# Altium integrated library National Semiconductor MiscPower.IntLib: 1552 symbols (part 37 of 43)
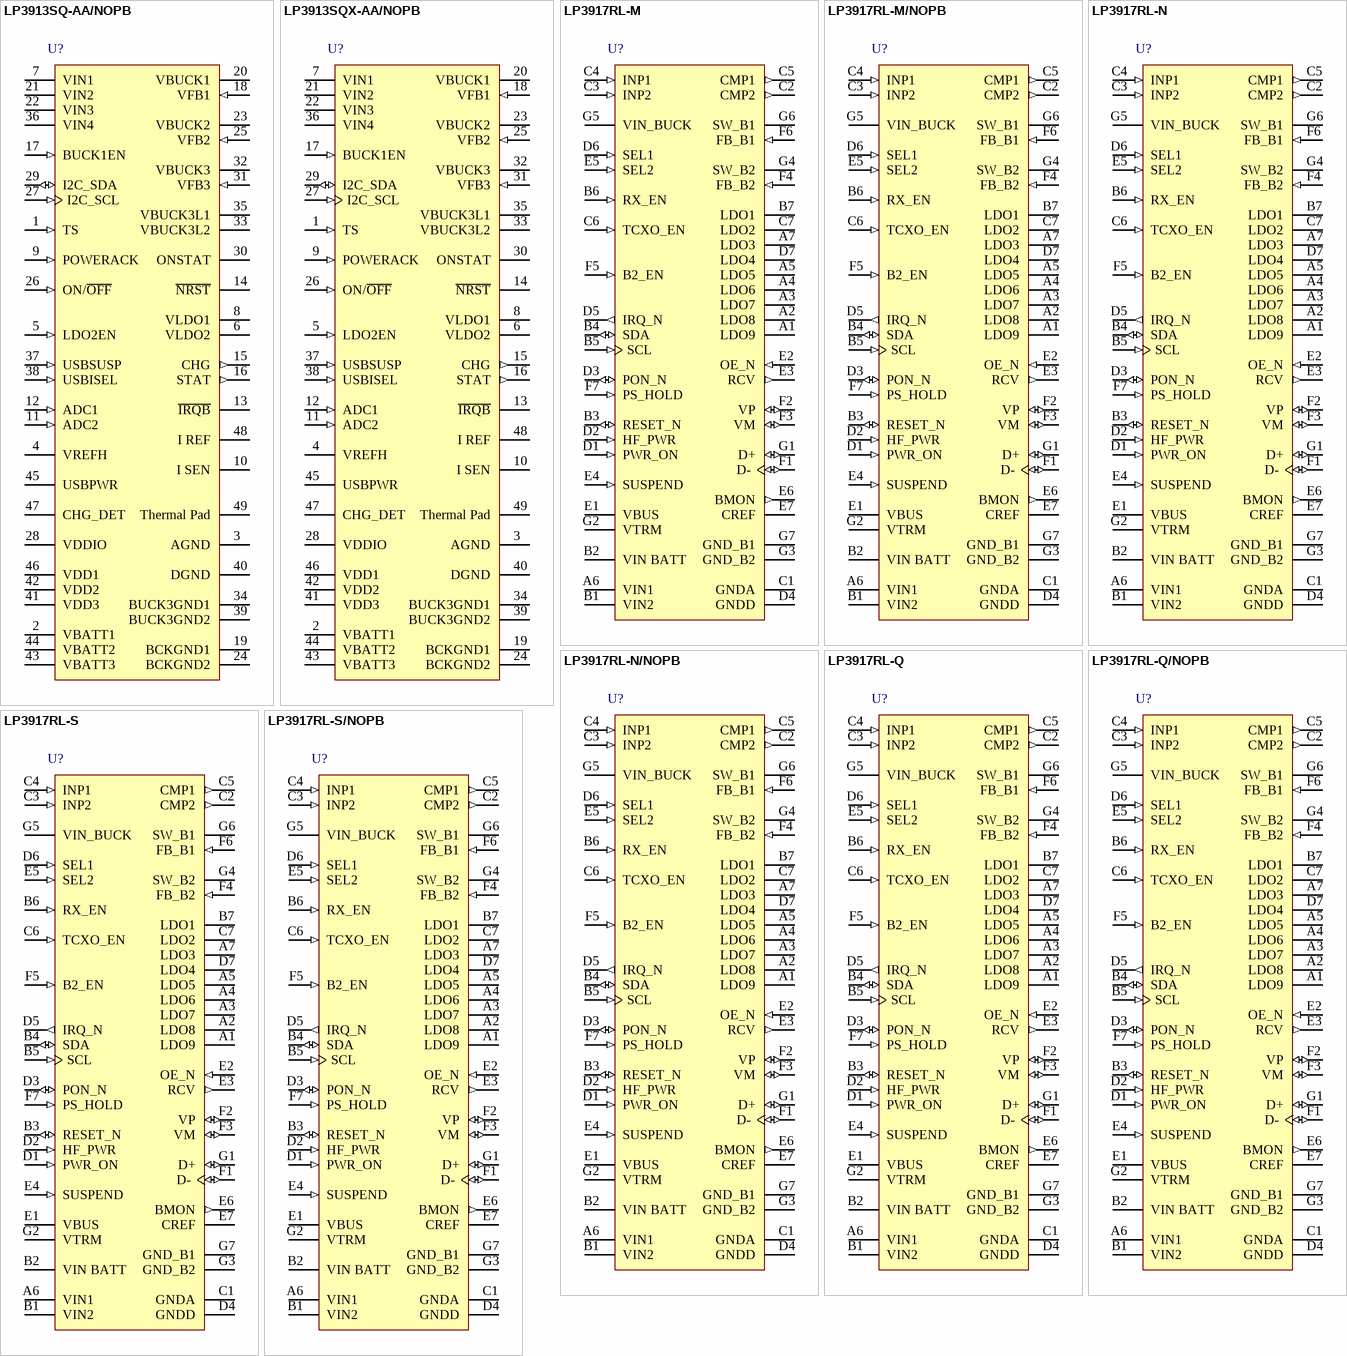
[diagram p93: symbols LP3913SQ-AA/NOPB to LP3917RL-S/NOPB]

## LP3917RL-M/NOPB
designator U?
CDMA Cellular Phone Power Management Unit, 49-pin Micro SMDXT, Pb-Free; PartNumber: LP3917RL-M/NOPB; Manufacturer: National Semiconductor; PackageTopMarking: XYTT*I V05; PowerWise: N; CompType: MiscPower; High-Reliability: Y; DatasheetVersion: Dec-2006; PackageVersion: revB, Dec-2005; PackageReference: RLA49AAA; PackageDescription: Micro SMDxt, 49 Bump (Large), 0.5mm Pitch; RoHS: Y; PinCount: 49; ComponentLink1Description: Manufacturer URL; ComponentLink1URL: http://www.national.com/; ComponentLink2Description: LP3917 Datasheet; ComponentLink2URL: http://www.national.com/ds/LP/LP3917.pdf; ComponentLink3Description: LP3917 Web Page; ComponentLink3URL: http://www.national.com/pf/LP/LP3917.html; ComponentLink4Description: RLA49AAA Package Page; ComponentLink4URL: http://www.national.com/packaging/folders/rla49aaa.html
footprint RLA49AAA (Micro SMD, 49-Leads, Body 3.47x3.47mm, Pitch 0.5mm, NSC Recommended)
pins: A1 LDO9 (power), A2 LDO8 (power), A3 LDO7 (power), A4 LDO6 (power), A5 LDO5 (power), A6 VIN1 (power), A7 LDO3 (power), B1 VIN2 (power), B2 VIN BATT (power), B3 RESET_N (io), B4 SDA (io), B5 SCL (in), B6 RX_EN (in), B7 LDO1 (power), C1 GNDA (power), C2 CMP2 (out), C3 INP2 (in), C4 INP1 (in), C5 CMP1 (out), C6 TCXO_EN (in), C7 LDO2 (power), D1 PWR_ON (in), D2 HF_PWR (in), D3 PON_N (io), D4 GNDD (power), D5 IRQ_N (out), D6 SEL1 (in), D7 LDO4 (power), E1 VBUS (power), E2 OE_N (in), E3 RCV (out), E4 SUSPEND (in), E5 SEL2 (in), E6 BMON (out), E7 CREF, F1 D- (io), F2 VP (io), F3 VM (io), F4 FB_B2 (in), F5 B2_EN (in), F6 FB_B1 (in), F7 PS_HOLD (in), G1 D+ (io), G2 VTRM (power), G3 GND_B2 (power), G4 SW_B2 (power), G5 VIN_BUCK (power), G6 SW_B1 (power), G7 GND_B1 (power)

## LP3917RL-N
designator U?
CDMA Cellular Phone Power Management Unit, 49-pin Micro SMDXT; PartNumber: LP3917RL-N; Manufacturer: National Semiconductor; PackageTopMarking: XYTT*I V03; PowerWise: N; CompType: MiscPower; High-Reliability: Y; DatasheetVersion: Dec-2006; PackageVersion: revB, Dec-2005; PackageReference: RLA49AAA; PackageDescription: Micro SMDxt, 49 Bump (Large), 0.5mm Pitch; RoHS: Y; PinCount: 49; ComponentLink1Description: Manufacturer URL; ComponentLink1URL: http://www.national.com/; ComponentLink2Description: LP3917 Datasheet; ComponentLink2URL: http://www.national.com/ds/LP/LP3917.pdf; ComponentLink3Description: LP3917 Web Page; ComponentLink3URL: http://www.national.com/pf/LP/LP3917.html; ComponentLink4Description: RLA49AAA Package Page; ComponentLink4URL: http://www.national.com/packaging/folders/rla49aaa.html
footprint RLA49AAA (Micro SMD, 49-Leads, Body 3.47x3.47mm, Pitch 0.5mm, NSC Recommended)
pins: A1 LDO9 (power), A2 LDO8 (power), A3 LDO7 (power), A4 LDO6 (power), A5 LDO5 (power), A6 VIN1 (power), A7 LDO3 (power), B1 VIN2 (power), B2 VIN BATT (power), B3 RESET_N (io), B4 SDA (io), B5 SCL (in), B6 RX_EN (in), B7 LDO1 (power), C1 GNDA (power), C2 CMP2 (out), C3 INP2 (in), C4 INP1 (in), C5 CMP1 (out), C6 TCXO_EN (in), C7 LDO2 (power), D1 PWR_ON (in), D2 HF_PWR (in), D3 PON_N (io), D4 GNDD (power), D5 IRQ_N (out), D6 SEL1 (in), D7 LDO4 (power), E1 VBUS (power), E2 OE_N (in), E3 RCV (out), E4 SUSPEND (in), E5 SEL2 (in), E6 BMON (out), E7 CREF, F1 D- (io), F2 VP (io), F3 VM (io), F4 FB_B2 (in), F5 B2_EN (in), F6 FB_B1 (in), F7 PS_HOLD (in), G1 D+ (io), G2 VTRM (power), G3 GND_B2 (power), G4 SW_B2 (power), G5 VIN_BUCK (power), G6 SW_B1 (power), G7 GND_B1 (power)

## LP3917RL-N/NOPB
designator U?
CDMA Cellular Phone Power Management Unit, 49-pin Micro SMDXT, Pb-Free; PartNumber: LP3917RL-N/NOPB; Manufacturer: National Semiconductor; PackageTopMarking: XYTT*I V03; PowerWise: N; CompType: MiscPower; High-Reliability: Y; DatasheetVersion: Dec-2006; PackageVersion: revB, Dec-2005; PackageReference: RLA49AAA; PackageDescription: Micro SMDxt, 49 Bump (Large), 0.5mm Pitch; RoHS: Y; PinCount: 49; ComponentLink1Description: Manufacturer URL; ComponentLink1URL: http://www.national.com/; ComponentLink2Description: LP3917 Datasheet; ComponentLink2URL: http://www.national.com/ds/LP/LP3917.pdf; ComponentLink3Description: LP3917 Web Page; ComponentLink3URL: http://www.national.com/pf/LP/LP3917.html; ComponentLink4Description: RLA49AAA Package Page; ComponentLink4URL: http://www.national.com/packaging/folders/rla49aaa.html
footprint RLA49AAA (Micro SMD, 49-Leads, Body 3.47x3.47mm, Pitch 0.5mm, NSC Recommended)
pins: A1 LDO9 (power), A2 LDO8 (power), A3 LDO7 (power), A4 LDO6 (power), A5 LDO5 (power), A6 VIN1 (power), A7 LDO3 (power), B1 VIN2 (power), B2 VIN BATT (power), B3 RESET_N (io), B4 SDA (io), B5 SCL (in), B6 RX_EN (in), B7 LDO1 (power), C1 GNDA (power), C2 CMP2 (out), C3 INP2 (in), C4 INP1 (in), C5 CMP1 (out), C6 TCXO_EN (in), C7 LDO2 (power), D1 PWR_ON (in), D2 HF_PWR (in), D3 PON_N (io), D4 GNDD (power), D5 IRQ_N (out), D6 SEL1 (in), D7 LDO4 (power), E1 VBUS (power), E2 OE_N (in), E3 RCV (out), E4 SUSPEND (in), E5 SEL2 (in), E6 BMON (out), E7 CREF, F1 D- (io), F2 VP (io), F3 VM (io), F4 FB_B2 (in), F5 B2_EN (in), F6 FB_B1 (in), F7 PS_HOLD (in), G1 D+ (io), G2 VTRM (power), G3 GND_B2 (power), G4 SW_B2 (power), G5 VIN_BUCK (power), G6 SW_B1 (power), G7 GND_B1 (power)

## LP3917RL-Q
designator U?
CDMA Cellular Phone Power Management Unit, 49-pin Micro SMDXT; PartNumber: LP3917RL-Q; Manufacturer: National Semiconductor; PackageTopMarking: XYTT*I V04; PowerWise: N; CompType: MiscPower; High-Reliability: Y; DatasheetVersion: Dec-2006; PackageVersion: revB, Dec-2005; PackageReference: RLA49AAA; PackageDescription: Micro SMDxt, 49 Bump (Large), 0.5mm Pitch; RoHS: Y; PinCount: 49; ComponentLink1Description: Manufacturer URL; ComponentLink1URL: http://www.national.com/; ComponentLink2Description: LP3917 Datasheet; ComponentLink2URL: http://www.national.com/ds/LP/LP3917.pdf; ComponentLink3Description: LP3917 Web Page; ComponentLink3URL: http://www.national.com/pf/LP/LP3917.html; ComponentLink4Description: RLA49AAA Package Page; ComponentLink4URL: http://www.national.com/packaging/folders/rla49aaa.html
footprint RLA49AAA (Micro SMD, 49-Leads, Body 3.47x3.47mm, Pitch 0.5mm, NSC Recommended)
pins: A1 LDO9 (power), A2 LDO8 (power), A3 LDO7 (power), A4 LDO6 (power), A5 LDO5 (power), A6 VIN1 (power), A7 LDO3 (power), B1 VIN2 (power), B2 VIN BATT (power), B3 RESET_N (io), B4 SDA (io), B5 SCL (in), B6 RX_EN (in), B7 LDO1 (power), C1 GNDA (power), C2 CMP2 (out), C3 INP2 (in), C4 INP1 (in), C5 CMP1 (out), C6 TCXO_EN (in), C7 LDO2 (power), D1 PWR_ON (in), D2 HF_PWR (in), D3 PON_N (io), D4 GNDD (power), D5 IRQ_N (out), D6 SEL1 (in), D7 LDO4 (power), E1 VBUS (power), E2 OE_N (in), E3 RCV (out), E4 SUSPEND (in), E5 SEL2 (in), E6 BMON (out), E7 CREF, F1 D- (io), F2 VP (io), F3 VM (io), F4 FB_B2 (in), F5 B2_EN (in), F6 FB_B1 (in), F7 PS_HOLD (in), G1 D+ (io), G2 VTRM (power), G3 GND_B2 (power), G4 SW_B2 (power), G5 VIN_BUCK (power), G6 SW_B1 (power), G7 GND_B1 (power)

## LP3917RL-Q/NOPB
designator U?
CDMA Cellular Phone Power Management Unit, 49-pin Micro SMDXT, Pb-Free; PartNumber: LP3917RL-Q/NOPB; Manufacturer: National Semiconductor; PackageTopMarking: XYTT*I V04; PowerWise: N; CompType: MiscPower; High-Reliability: Y; DatasheetVersion: Dec-2006; PackageVersion: revB, Dec-2005; PackageReference: RLA49AAA; PackageDescription: Micro SMDxt, 49 Bump (Large), 0.5mm Pitch; RoHS: Y; PinCount: 49; ComponentLink1Description: Manufacturer URL; ComponentLink1URL: http://www.national.com/; ComponentLink2Description: LP3917 Datasheet; ComponentLink2URL: http://www.national.com/ds/LP/LP3917.pdf; ComponentLink3Description: LP3917 Web Page; ComponentLink3URL: http://www.national.com/pf/LP/LP3917.html; ComponentLink4Description: RLA49AAA Package Page; ComponentLink4URL: http://www.national.com/packaging/folders/rla49aaa.html
footprint RLA49AAA (Micro SMD, 49-Leads, Body 3.47x3.47mm, Pitch 0.5mm, NSC Recommended)
pins: A1 LDO9 (power), A2 LDO8 (power), A3 LDO7 (power), A4 LDO6 (power), A5 LDO5 (power), A6 VIN1 (power), A7 LDO3 (power), B1 VIN2 (power), B2 VIN BATT (power), B3 RESET_N (io), B4 SDA (io), B5 SCL (in), B6 RX_EN (in), B7 LDO1 (power), C1 GNDA (power), C2 CMP2 (out), C3 INP2 (in), C4 INP1 (in), C5 CMP1 (out), C6 TCXO_EN (in), C7 LDO2 (power), D1 PWR_ON (in), D2 HF_PWR (in), D3 PON_N (io), D4 GNDD (power), D5 IRQ_N (out), D6 SEL1 (in), D7 LDO4 (power), E1 VBUS (power), E2 OE_N (in), E3 RCV (out), E4 SUSPEND (in), E5 SEL2 (in), E6 BMON (out), E7 CREF, F1 D- (io), F2 VP (io), F3 VM (io), F4 FB_B2 (in), F5 B2_EN (in), F6 FB_B1 (in), F7 PS_HOLD (in), G1 D+ (io), G2 VTRM (power), G3 GND_B2 (power), G4 SW_B2 (power), G5 VIN_BUCK (power), G6 SW_B1 (power), G7 GND_B1 (power)

## LP3917RL-S
designator U?
CDMA Cellular Phone Power Management Unit, 49-pin Micro SMDXT; PartNumber: LP3917RL-S; Manufacturer: National Semiconductor; PackageTopMarking: XYTT*I V01; PowerWise: N; CompType: MiscPower; High-Reliability: Y; DatasheetVersion: Dec-2006; PackageVersion: revB, Dec-2005; PackageReference: RLA49AAA; PackageDescription: Micro SMDxt, 49 Bump (Large), 0.5mm Pitch; RoHS: Y; PinCount: 49; ComponentLink1Description: Manufacturer URL; ComponentLink1URL: http://www.national.com/; ComponentLink2Description: LP3917 Datasheet; ComponentLink2URL: http://www.national.com/ds/LP/LP3917.pdf; ComponentLink3Description: LP3917 Web Page; ComponentLink3URL: http://www.national.com/pf/LP/LP3917.html; ComponentLink4Description: RLA49AAA Package Page; ComponentLink4URL: http://www.national.com/packaging/folders/rla49aaa.html
footprint RLA49AAA (Micro SMD, 49-Leads, Body 3.47x3.47mm, Pitch 0.5mm, NSC Recommended)
pins: A1 LDO9 (power), A2 LDO8 (power), A3 LDO7 (power), A4 LDO6 (power), A5 LDO5 (power), A6 VIN1 (power), A7 LDO3 (power), B1 VIN2 (power), B2 VIN BATT (power), B3 RESET_N (io), B4 SDA (io), B5 SCL (in), B6 RX_EN (in), B7 LDO1 (power), C1 GNDA (power), C2 CMP2 (out), C3 INP2 (in), C4 INP1 (in), C5 CMP1 (out), C6 TCXO_EN (in), C7 LDO2 (power), D1 PWR_ON (in), D2 HF_PWR (in), D3 PON_N (io), D4 GNDD (power), D5 IRQ_N (out), D6 SEL1 (in), D7 LDO4 (power), E1 VBUS (power), E2 OE_N (in), E3 RCV (out), E4 SUSPEND (in), E5 SEL2 (in), E6 BMON (out), E7 CREF, F1 D- (io), F2 VP (io), F3 VM (io), F4 FB_B2 (in), F5 B2_EN (in), F6 FB_B1 (in), F7 PS_HOLD (in), G1 D+ (io), G2 VTRM (power), G3 GND_B2 (power), G4 SW_B2 (power), G5 VIN_BUCK (power), G6 SW_B1 (power), G7 GND_B1 (power)

## LP3917RL-S/NOPB
designator U?
CDMA Cellular Phone Power Management Unit, 49-pin Micro SMDXT, Pb-Free; PartNumber: LP3917RL-S/NOPB; Manufacturer: National Semiconductor; PackageTopMarking: XYTT*I V01; PowerWise: N; CompType: MiscPower; High-Reliability: Y; DatasheetVersion: Dec-2006; PackageVersion: revB, Dec-2005; PackageReference: RLA49AAA; PackageDescription: Micro SMDxt, 49 Bump (Large), 0.5mm Pitch; RoHS: Y; PinCount: 49; ComponentLink1Description: Manufacturer URL; ComponentLink1URL: http://www.national.com/; ComponentLink2Description: LP3917 Datasheet; ComponentLink2URL: http://www.national.com/ds/LP/LP3917.pdf; ComponentLink3Description: LP3917 Web Page; ComponentLink3URL: http://www.national.com/pf/LP/LP3917.html; ComponentLink4Description: RLA49AAA Package Page; ComponentLink4URL: http://www.national.com/packaging/folders/rla49aaa.html
footprint RLA49AAA (Micro SMD, 49-Leads, Body 3.47x3.47mm, Pitch 0.5mm, NSC Recommended)
pins: A1 LDO9 (power), A2 LDO8 (power), A3 LDO7 (power), A4 LDO6 (power), A5 LDO5 (power), A6 VIN1 (power), A7 LDO3 (power), B1 VIN2 (power), B2 VIN BATT (power), B3 RESET_N (io), B4 SDA (io), B5 SCL (in), B6 RX_EN (in), B7 LDO1 (power), C1 GNDA (power), C2 CMP2 (out), C3 INP2 (in), C4 INP1 (in), C5 CMP1 (out), C6 TCXO_EN (in), C7 LDO2 (power), D1 PWR_ON (in), D2 HF_PWR (in), D3 PON_N (io), D4 GNDD (power), D5 IRQ_N (out), D6 SEL1 (in), D7 LDO4 (power), E1 VBUS (power), E2 OE_N (in), E3 RCV (out), E4 SUSPEND (in), E5 SEL2 (in), E6 BMON (out), E7 CREF, F1 D- (io), F2 VP (io), F3 VM (io), F4 FB_B2 (in), F5 B2_EN (in), F6 FB_B1 (in), F7 PS_HOLD (in), G1 D+ (io), G2 VTRM (power), G3 GND_B2 (power), G4 SW_B2 (power), G5 VIN_BUCK (power), G6 SW_B1 (power), G7 GND_B1 (power)

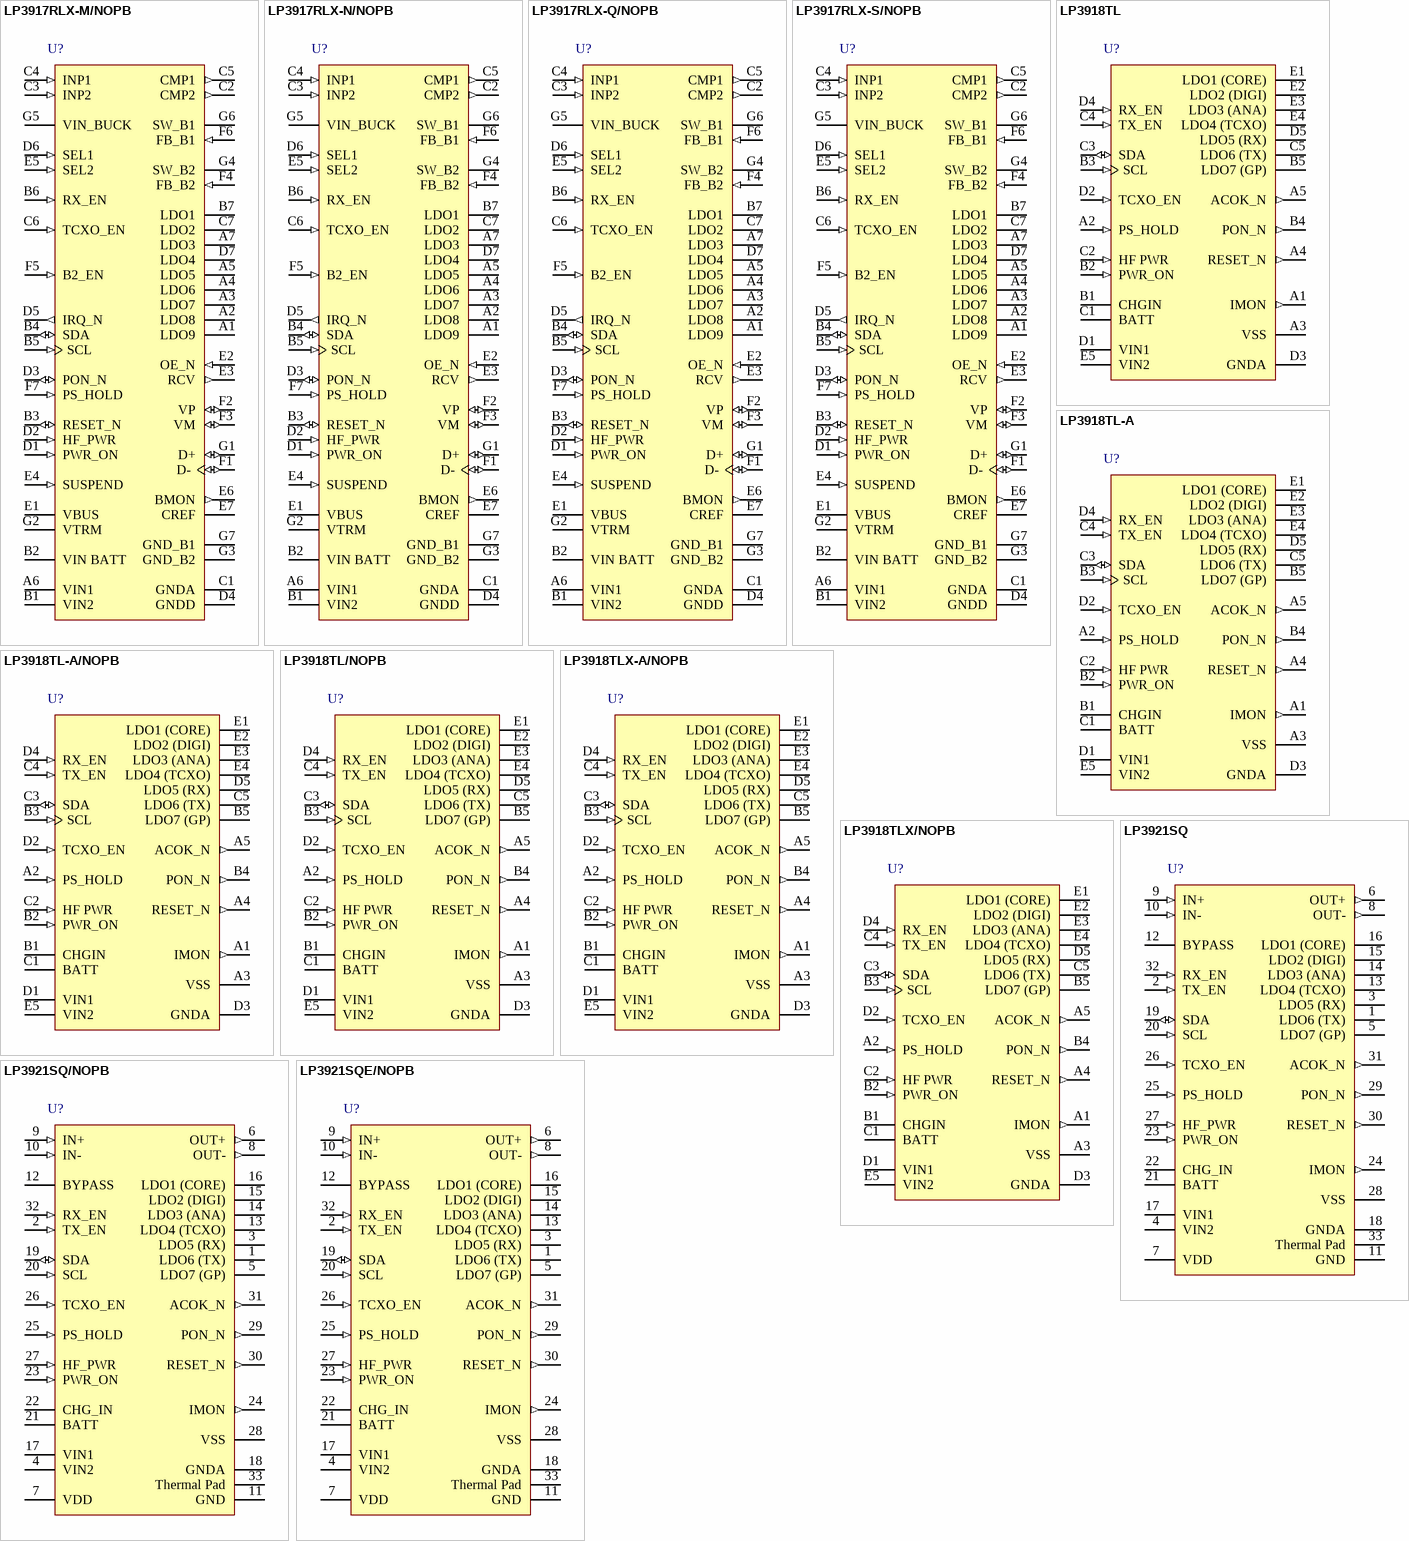
[diagram p42: symbols LP3917RLX-M/NOPB to LP3921SQE/NOPB]

## LP3917RLX-M/NOPB
designator U?
CDMA Cellular Phone Power Management Unit, 49-pin Micro SMDXT, Pb-Free; PartNumber: LP3917RLX-M/NOPB; Manufacturer: National Semiconductor; PackageTopMarking: XYTT*I V05; PowerWise: N; CompType: MiscPower; High-Reliability: Y; DatasheetVersion: Dec-2006; PackageVersion: revB, Dec-2005; PackageReference: RLA49AAA; PackageDescription: Micro SMDxt, 49 Bump (Large), 0.5mm Pitch; RoHS: Y; PinCount: 49; ComponentLink1Description: Manufacturer URL; ComponentLink1URL: http://www.national.com/; ComponentLink2Description: LP3917 Datasheet; ComponentLink2URL: http://www.national.com/ds/LP/LP3917.pdf; ComponentLink3Description: LP3917 Web Page; ComponentLink3URL: http://www.national.com/pf/LP/LP3917.html; ComponentLink4Description: RLA49AAA Package Page; ComponentLink4URL: http://www.national.com/packaging/folders/rla49aaa.html
footprint RLA49AAA (Micro SMD, 49-Leads, Body 3.47x3.47mm, Pitch 0.5mm, NSC Recommended)
pins: A1 LDO9 (power), A2 LDO8 (power), A3 LDO7 (power), A4 LDO6 (power), A5 LDO5 (power), A6 VIN1 (power), A7 LDO3 (power), B1 VIN2 (power), B2 VIN BATT (power), B3 RESET_N (io), B4 SDA (io), B5 SCL (in), B6 RX_EN (in), B7 LDO1 (power), C1 GNDA (power), C2 CMP2 (out), C3 INP2 (in), C4 INP1 (in), C5 CMP1 (out), C6 TCXO_EN (in), C7 LDO2 (power), D1 PWR_ON (in), D2 HF_PWR (in), D3 PON_N (io), D4 GNDD (power), D5 IRQ_N (out), D6 SEL1 (in), D7 LDO4 (power), E1 VBUS (power), E2 OE_N (in), E3 RCV (out), E4 SUSPEND (in), E5 SEL2 (in), E6 BMON (out), E7 CREF, F1 D- (io), F2 VP (io), F3 VM (io), F4 FB_B2 (in), F5 B2_EN (in), F6 FB_B1 (in), F7 PS_HOLD (in), G1 D+ (io), G2 VTRM (power), G3 GND_B2 (power), G4 SW_B2 (power), G5 VIN_BUCK (power), G6 SW_B1 (power), G7 GND_B1 (power)

## LP3917RLX-N/NOPB
designator U?
CDMA Cellular Phone Power Management Unit, 49-pin Micro SMDXT, Pb-Free; PartNumber: LP3917RLX-N/NOPB; Manufacturer: National Semiconductor; PackageTopMarking: XYTT*I V03; PowerWise: N; CompType: MiscPower; High-Reliability: Y; DatasheetVersion: Dec-2006; PackageVersion: revB, Dec-2005; PackageReference: RLA49AAA; PackageDescription: Micro SMDxt, 49 Bump (Large), 0.5mm Pitch; RoHS: Y; PinCount: 49; ComponentLink1Description: Manufacturer URL; ComponentLink1URL: http://www.national.com/; ComponentLink2Description: LP3917 Datasheet; ComponentLink2URL: http://www.national.com/ds/LP/LP3917.pdf; ComponentLink3Description: LP3917 Web Page; ComponentLink3URL: http://www.national.com/pf/LP/LP3917.html; ComponentLink4Description: RLA49AAA Package Page; ComponentLink4URL: http://www.national.com/packaging/folders/rla49aaa.html
footprint RLA49AAA (Micro SMD, 49-Leads, Body 3.47x3.47mm, Pitch 0.5mm, NSC Recommended)
pins: A1 LDO9 (power), A2 LDO8 (power), A3 LDO7 (power), A4 LDO6 (power), A5 LDO5 (power), A6 VIN1 (power), A7 LDO3 (power), B1 VIN2 (power), B2 VIN BATT (power), B3 RESET_N (io), B4 SDA (io), B5 SCL (in), B6 RX_EN (in), B7 LDO1 (power), C1 GNDA (power), C2 CMP2 (out), C3 INP2 (in), C4 INP1 (in), C5 CMP1 (out), C6 TCXO_EN (in), C7 LDO2 (power), D1 PWR_ON (in), D2 HF_PWR (in), D3 PON_N (io), D4 GNDD (power), D5 IRQ_N (out), D6 SEL1 (in), D7 LDO4 (power), E1 VBUS (power), E2 OE_N (in), E3 RCV (out), E4 SUSPEND (in), E5 SEL2 (in), E6 BMON (out), E7 CREF, F1 D- (io), F2 VP (io), F3 VM (io), F4 FB_B2 (in), F5 B2_EN (in), F6 FB_B1 (in), F7 PS_HOLD (in), G1 D+ (io), G2 VTRM (power), G3 GND_B2 (power), G4 SW_B2 (power), G5 VIN_BUCK (power), G6 SW_B1 (power), G7 GND_B1 (power)

## LP3917RLX-Q/NOPB
designator U?
CDMA Cellular Phone Power Management Unit, 49-pin Micro SMDXT, Pb-Free; PartNumber: LP3917RLX-Q/NOPB; Manufacturer: National Semiconductor; PackageTopMarking: XYTT*I V04; PowerWise: N; CompType: MiscPower; High-Reliability: Y; DatasheetVersion: Dec-2006; PackageVersion: revB, Dec-2005; PackageReference: RLA49AAA; PackageDescription: Micro SMDxt, 49 Bump (Large), 0.5mm Pitch; RoHS: Y; PinCount: 49; ComponentLink1Description: Manufacturer URL; ComponentLink1URL: http://www.national.com/; ComponentLink2Description: LP3917 Datasheet; ComponentLink2URL: http://www.national.com/ds/LP/LP3917.pdf; ComponentLink3Description: LP3917 Web Page; ComponentLink3URL: http://www.national.com/pf/LP/LP3917.html; ComponentLink4Description: RLA49AAA Package Page; ComponentLink4URL: http://www.national.com/packaging/folders/rla49aaa.html
footprint RLA49AAA (Micro SMD, 49-Leads, Body 3.47x3.47mm, Pitch 0.5mm, NSC Recommended)
pins: A1 LDO9 (power), A2 LDO8 (power), A3 LDO7 (power), A4 LDO6 (power), A5 LDO5 (power), A6 VIN1 (power), A7 LDO3 (power), B1 VIN2 (power), B2 VIN BATT (power), B3 RESET_N (io), B4 SDA (io), B5 SCL (in), B6 RX_EN (in), B7 LDO1 (power), C1 GNDA (power), C2 CMP2 (out), C3 INP2 (in), C4 INP1 (in), C5 CMP1 (out), C6 TCXO_EN (in), C7 LDO2 (power), D1 PWR_ON (in), D2 HF_PWR (in), D3 PON_N (io), D4 GNDD (power), D5 IRQ_N (out), D6 SEL1 (in), D7 LDO4 (power), E1 VBUS (power), E2 OE_N (in), E3 RCV (out), E4 SUSPEND (in), E5 SEL2 (in), E6 BMON (out), E7 CREF, F1 D- (io), F2 VP (io), F3 VM (io), F4 FB_B2 (in), F5 B2_EN (in), F6 FB_B1 (in), F7 PS_HOLD (in), G1 D+ (io), G2 VTRM (power), G3 GND_B2 (power), G4 SW_B2 (power), G5 VIN_BUCK (power), G6 SW_B1 (power), G7 GND_B1 (power)

## LP3917RLX-S/NOPB
designator U?
CDMA Cellular Phone Power Management Unit, 49-pin Micro SMDXT, Pb-Free; PartNumber: LP3917RLX-S/NOPB; Manufacturer: National Semiconductor; PackageTopMarking: XYTT*I V01; PowerWise: N; CompType: MiscPower; High-Reliability: Y; DatasheetVersion: Dec-2006; PackageVersion: revB, Dec-2005; PackageReference: RLA49AAA; PackageDescription: Micro SMDxt, 49 Bump (Large), 0.5mm Pitch; RoHS: Y; PinCount: 49; ComponentLink1Description: Manufacturer URL; ComponentLink1URL: http://www.national.com/; ComponentLink2Description: LP3917 Datasheet; ComponentLink2URL: http://www.national.com/ds/LP/LP3917.pdf; ComponentLink3Description: LP3917 Web Page; ComponentLink3URL: http://www.national.com/pf/LP/LP3917.html; ComponentLink4Description: RLA49AAA Package Page; ComponentLink4URL: http://www.national.com/packaging/folders/rla49aaa.html
footprint RLA49AAA (Micro SMD, 49-Leads, Body 3.47x3.47mm, Pitch 0.5mm, NSC Recommended)
pins: A1 LDO9 (power), A2 LDO8 (power), A3 LDO7 (power), A4 LDO6 (power), A5 LDO5 (power), A6 VIN1 (power), A7 LDO3 (power), B1 VIN2 (power), B2 VIN BATT (power), B3 RESET_N (io), B4 SDA (io), B5 SCL (in), B6 RX_EN (in), B7 LDO1 (power), C1 GNDA (power), C2 CMP2 (out), C3 INP2 (in), C4 INP1 (in), C5 CMP1 (out), C6 TCXO_EN (in), C7 LDO2 (power), D1 PWR_ON (in), D2 HF_PWR (in), D3 PON_N (io), D4 GNDD (power), D5 IRQ_N (out), D6 SEL1 (in), D7 LDO4 (power), E1 VBUS (power), E2 OE_N (in), E3 RCV (out), E4 SUSPEND (in), E5 SEL2 (in), E6 BMON (out), E7 CREF, F1 D- (io), F2 VP (io), F3 VM (io), F4 FB_B2 (in), F5 B2_EN (in), F6 FB_B1 (in), F7 PS_HOLD (in), G1 D+ (io), G2 VTRM (power), G3 GND_B2 (power), G4 SW_B2 (power), G5 VIN_BUCK (power), G6 SW_B1 (power), G7 GND_B1 (power)

## LP3918TL
designator U?
Battery Charge Management and Regulator Unit, 25-pin Micro SMD; PartNumber: LP3918TL; Manufacturer: National Semiconductor; PackageTopMarking: XYTT*I 3918; PowerWise: N; CompType: MiscPower; High-Reliability: Y; DatasheetVersion: Apr-2009; PackageVersion: revD, Dec-2003; PackageReference: TLA2511A; PackageDescription: Thin Micro SMD, 25 Bump (Large), 0.5mm Pitch; RoHS: Y; PinCount: 25; Code_JEDEC: MO-211-DH; ComponentLink1Description: Manufacturer URL; ComponentLink1URL: http://www.national.com/; ComponentLink2Description: LP3918 Datasheet; ComponentLink2URL: http://www.national.com/ds/LP/LP3918.pdf; ComponentLink3Description: LP3918 Web Page; ComponentLink3URL: http://www.national.com/pf/LP/LP3918.html; ComponentLink4Description: TLA2511A Package Page; ComponentLink4URL: http://www.national.com/packaging/folders/tla2511a.html
footprint TLA2511A (Micro SMD, 25-Leads, Body 2.47x2.47mm, Pitch 0.5mm, NSC Recommended)
pins: A1 IMON (out), A2 PS_HOLD (in), A3 VSS (power), A4 RESET_N (out), A5 ACOK_N (out), B1 CHGIN (power), B2 PWR_ON (in), B3 SCL (in), B4 PON_N (out), B5 LDO7 (GP) (power), C1 BATT (power), C2 HF PWR (in), C3 SDA (io), C4 TX_EN (in), C5 LDO6 (TX) (power), D1 VIN1 (power), D2 TCXO_EN (in), D3 GNDA (power), D4 RX_EN (in), D5 LDO5 (RX) (power), E1 LDO1 (CORE) (power), E2 LDO2 (DIGI) (power), E3 LDO3 (ANA) (power), E4 LDO4 (TCXO) (power), E5 VIN2 (power)

## LP3918TL-A
designator U?
Battery Charge Management and Regulator Unit, 25-pin Micro SMD; PartNumber: LP3918TL-A; Manufacturer: National Semiconductor; PackageTopMarking: XYTT*I V011; PowerWise: N; CompType: MiscPower; High-Reliability: Y; DatasheetVersion: Apr-2009; PackageVersion: revD, Dec-2003; PackageReference: TLA2511A; PackageDescription: Thin Micro SMD, 25 Bump (Large), 0.5mm Pitch; RoHS: Y; PinCount: 25; Code_JEDEC: MO-211-DH; ComponentLink1Description: Manufacturer URL; ComponentLink1URL: http://www.national.com/; ComponentLink2Description: LP3918 Datasheet; ComponentLink2URL: http://www.national.com/ds/LP/LP3918.pdf; ComponentLink3Description: LP3918 Web Page; ComponentLink3URL: http://www.national.com/pf/LP/LP3918.html; ComponentLink4Description: TLA2511A Package Page; ComponentLink4URL: http://www.national.com/packaging/folders/tla2511a.html
footprint TLA2511A (Micro SMD, 25-Leads, Body 2.47x2.47mm, Pitch 0.5mm, NSC Recommended)
pins: A1 IMON (out), A2 PS_HOLD (in), A3 VSS (power), A4 RESET_N (out), A5 ACOK_N (out), B1 CHGIN (power), B2 PWR_ON (in), B3 SCL (in), B4 PON_N (out), B5 LDO7 (GP) (power), C1 BATT (power), C2 HF PWR (in), C3 SDA (io), C4 TX_EN (in), C5 LDO6 (TX) (power), D1 VIN1 (power), D2 TCXO_EN (in), D3 GNDA (power), D4 RX_EN (in), D5 LDO5 (RX) (power), E1 LDO1 (CORE) (power), E2 LDO2 (DIGI) (power), E3 LDO3 (ANA) (power), E4 LDO4 (TCXO) (power), E5 VIN2 (power)

## LP3918TL-A/NOPB
designator U?
Battery Charge Management and Regulator Unit, 25-pin Micro SMD, Pb-Free; PartNumber: LP3918TL-A/NOPB; Manufacturer: National Semiconductor; PackageTopMarking: XYTT*I V011; PowerWise: N; CompType: MiscPower; High-Reliability: Y; DatasheetVersion: Apr-2009; PackageVersion: revD, Dec-2003; PackageReference: TLA2511A; PackageDescription: Thin Micro SMD, 25 Bump (Large), 0.5mm Pitch; RoHS: Y; PinCount: 25; Code_JEDEC: MO-211-DH; ComponentLink1Description: Manufacturer URL; ComponentLink1URL: http://www.national.com/; ComponentLink2Description: LP3918 Datasheet; ComponentLink2URL: http://www.national.com/ds/LP/LP3918.pdf; ComponentLink3Description: LP3918 Web Page; ComponentLink3URL: http://www.national.com/pf/LP/LP3918.html; ComponentLink4Description: TLA2511A Package Page; ComponentLink4URL: http://www.national.com/packaging/folders/tla2511a.html
footprint TLA2511A (Micro SMD, 25-Leads, Body 2.47x2.47mm, Pitch 0.5mm, NSC Recommended)
pins: A1 IMON (out), A2 PS_HOLD (in), A3 VSS (power), A4 RESET_N (out), A5 ACOK_N (out), B1 CHGIN (power), B2 PWR_ON (in), B3 SCL (in), B4 PON_N (out), B5 LDO7 (GP) (power), C1 BATT (power), C2 HF PWR (in), C3 SDA (io), C4 TX_EN (in), C5 LDO6 (TX) (power), D1 VIN1 (power), D2 TCXO_EN (in), D3 GNDA (power), D4 RX_EN (in), D5 LDO5 (RX) (power), E1 LDO1 (CORE) (power), E2 LDO2 (DIGI) (power), E3 LDO3 (ANA) (power), E4 LDO4 (TCXO) (power), E5 VIN2 (power)

## LP3918TL/NOPB
designator U?
Battery Charge Management and Regulator Unit, 25-pin Micro SMD, Pb-Free; PartNumber: LP3918TL/NOPB; Manufacturer: National Semiconductor; PackageTopMarking: XYTT*I 3918; PowerWise: N; CompType: MiscPower; High-Reliability: Y; DatasheetVersion: Apr-2009; PackageVersion: revD, Dec-2003; PackageReference: TLA2511A; PackageDescription: Thin Micro SMD, 25 Bump (Large), 0.5mm Pitch; RoHS: Y; PinCount: 25; Code_JEDEC: MO-211-DH; ComponentLink1Description: Manufacturer URL; ComponentLink1URL: http://www.national.com/; ComponentLink2Description: LP3918 Datasheet; ComponentLink2URL: http://www.national.com/ds/LP/LP3918.pdf; ComponentLink3Description: LP3918 Web Page; ComponentLink3URL: http://www.national.com/pf/LP/LP3918.html; ComponentLink4Description: TLA2511A Package Page; ComponentLink4URL: http://www.national.com/packaging/folders/tla2511a.html
footprint TLA2511A (Micro SMD, 25-Leads, Body 2.47x2.47mm, Pitch 0.5mm, NSC Recommended)
pins: A1 IMON (out), A2 PS_HOLD (in), A3 VSS (power), A4 RESET_N (out), A5 ACOK_N (out), B1 CHGIN (power), B2 PWR_ON (in), B3 SCL (in), B4 PON_N (out), B5 LDO7 (GP) (power), C1 BATT (power), C2 HF PWR (in), C3 SDA (io), C4 TX_EN (in), C5 LDO6 (TX) (power), D1 VIN1 (power), D2 TCXO_EN (in), D3 GNDA (power), D4 RX_EN (in), D5 LDO5 (RX) (power), E1 LDO1 (CORE) (power), E2 LDO2 (DIGI) (power), E3 LDO3 (ANA) (power), E4 LDO4 (TCXO) (power), E5 VIN2 (power)

## LP3918TLX-A/NOPB
designator U?
Battery Charge Management and Regulator Unit, 25-pin Micro SMD, Pb-Free; PartNumber: LP3918TLX-A/NOPB; Manufacturer: National Semiconductor; PackageTopMarking: XYTT*I V011; PowerWise: N; CompType: MiscPower; High-Reliability: Y; DatasheetVersion: Apr-2009; PackageVersion: revD, Dec-2003; PackageReference: TLA2511A; PackageDescription: Thin Micro SMD, 25 Bump (Large), 0.5mm Pitch; RoHS: Y; PinCount: 25; Code_JEDEC: MO-211-DH; ComponentLink1Description: Manufacturer URL; ComponentLink1URL: http://www.national.com/; ComponentLink2Description: LP3918 Datasheet; ComponentLink2URL: http://www.national.com/ds/LP/LP3918.pdf; ComponentLink3Description: LP3918 Web Page; ComponentLink3URL: http://www.national.com/pf/LP/LP3918.html; ComponentLink4Description: TLA2511A Package Page; ComponentLink4URL: http://www.national.com/packaging/folders/tla2511a.html
footprint TLA2511A (Micro SMD, 25-Leads, Body 2.47x2.47mm, Pitch 0.5mm, NSC Recommended)
pins: A1 IMON (out), A2 PS_HOLD (in), A3 VSS (power), A4 RESET_N (out), A5 ACOK_N (out), B1 CHGIN (power), B2 PWR_ON (in), B3 SCL (in), B4 PON_N (out), B5 LDO7 (GP) (power), C1 BATT (power), C2 HF PWR (in), C3 SDA (io), C4 TX_EN (in), C5 LDO6 (TX) (power), D1 VIN1 (power), D2 TCXO_EN (in), D3 GNDA (power), D4 RX_EN (in), D5 LDO5 (RX) (power), E1 LDO1 (CORE) (power), E2 LDO2 (DIGI) (power), E3 LDO3 (ANA) (power), E4 LDO4 (TCXO) (power), E5 VIN2 (power)

## LP3918TLX/NOPB
designator U?
Battery Charge Management and Regulator Unit, 25-pin Micro SMD, Pb-Free; PartNumber: LP3918TLX/NOPB; Manufacturer: National Semiconductor; PackageTopMarking: XYTT*I 3918; PowerWise: N; CompType: MiscPower; High-Reliability: Y; DatasheetVersion: Apr-2009; PackageVersion: revD, Dec-2003; PackageReference: TLA2511A; PackageDescription: Thin Micro SMD, 25 Bump (Large), 0.5mm Pitch; RoHS: Y; PinCount: 25; Code_JEDEC: MO-211-DH; ComponentLink1Description: Manufacturer URL; ComponentLink1URL: http://www.national.com/; ComponentLink2Description: LP3918 Datasheet; ComponentLink2URL: http://www.national.com/ds/LP/LP3918.pdf; ComponentLink3Description: LP3918 Web Page; ComponentLink3URL: http://www.national.com/pf/LP/LP3918.html; ComponentLink4Description: TLA2511A Package Page; ComponentLink4URL: http://www.national.com/packaging/folders/tla2511a.html
footprint TLA2511A (Micro SMD, 25-Leads, Body 2.47x2.47mm, Pitch 0.5mm, NSC Recommended)
pins: A1 IMON (out), A2 PS_HOLD (in), A3 VSS (power), A4 RESET_N (out), A5 ACOK_N (out), B1 CHGIN (power), B2 PWR_ON (in), B3 SCL (in), B4 PON_N (out), B5 LDO7 (GP) (power), C1 BATT (power), C2 HF PWR (in), C3 SDA (io), C4 TX_EN (in), C5 LDO6 (TX) (power), D1 VIN1 (power), D2 TCXO_EN (in), D3 GNDA (power), D4 RX_EN (in), D5 LDO5 (RX) (power), E1 LDO1 (CORE) (power), E2 LDO2 (DIGI) (power), E3 LDO3 (ANA) (power), E4 LDO4 (TCXO) (power), E5 VIN2 (power)

## LP3921SQ
designator U?
Battery Charger Management and Regulator Unit with Integrated Boomer Audio Amplifier, 32-pin LLP; PartNumber: LP3921SQ; Manufacturer: National Semiconductor; PackageTopMarking: NS*UZXYTT*L3921SQ; PowerWise: N; CompType: MiscPower; High-Reliability: Y; DatasheetVersion: Aug-2008; PackageVersion: revB, Oct-2009; PackageReference: SQA32A; PackageDescription: LLP, Quad, 5 x 5 x 0.8mm, 32 Lead, 0.5mm Pitch, No Pullback 3.1 x 3.1 Exposed Pad; RoHS: Y; PinCount: 32; ComponentLink1Description: Manufacturer URL; ComponentLink1URL: http://www.national.com/; ComponentLink2Description: LP3921 Datasheet; ComponentLink2URL: http://www.national.com/ds/LP/LP3921.pdf; ComponentLink3Description: LP3921 Web Page; ComponentLink3URL: http://www.national.com/pf/LP/LP3921.html; ComponentLink4Description: SQA32A Package Page; ComponentLink4URL: http://www.national.com/packaging/folders/sqa32a.html
footprint SQA32A (QFN, 32-Leads, Body 5x5mm, Pitch 0.5mm, Thermal Pad 3.2x3.2mm, NSC Recommended)
pins: 1 LDO6 (TX) (power), 2 TX_EN (in), 3 LDO5 (RX) (power), 4 VIN2 (power), 5 LDO7 (GP) (power), 6 OUT+ (out), 7 VDD (power), 8 OUT- (out), 9 IN+ (in), 10 IN- (in), 11 GND (power), 12 BYPASS, 13 LDO4 (TCXO) (power), 14 LDO3 (ANA) (power), 15 LDO2 (DIGI) (power), 16 LDO1 (CORE) (power), 17 VIN1 (power), 18 GNDA (power), 19 SDA (io), 20 SCL (in), 21 BATT (power), 22 CHG_IN (power), 23 PWR_ON (in), 24 IMON (out), 25 PS_HOLD (in), 26 TCXO_EN (in), 27 HF_PWR (in), 28 VSS (power), 29 PON_N (out), 30 RESET_N (out), 31 ACOK_N (out), 32 RX_EN (in), 33 Thermal Pad (power)

## LP3921SQ/NOPB
designator U?
Battery Charger Management and Regulator Unit with Integrated Boomer Audio Amplifier, 32-pin LLP, Pb-Free; PartNumber: LP3921SQ/NOPB; Manufacturer: National Semiconductor; PackageTopMarking: NS*UZXYTT*L3921SQ; PowerWise: N; CompType: MiscPower; High-Reliability: Y; DatasheetVersion: Aug-2008; PackageVersion: revB, Oct-2009; PackageReference: SQA32A; PackageDescription: LLP, Quad, 5 x 5 x 0.8mm, 32 Lead, 0.5mm Pitch, No Pullback 3.1 x 3.1 Exposed Pad; RoHS: Y; PinCount: 32; ComponentLink1Description: Manufacturer URL; ComponentLink1URL: http://www.national.com/; ComponentLink2Description: LP3921 Datasheet; ComponentLink2URL: http://www.national.com/ds/LP/LP3921.pdf; ComponentLink3Description: LP3921 Web Page; ComponentLink3URL: http://www.national.com/pf/LP/LP3921.html; ComponentLink4Description: SQA32A Package Page; ComponentLink4URL: http://www.national.com/packaging/folders/sqa32a.html
footprint SQA32A (QFN, 32-Leads, Body 5x5mm, Pitch 0.5mm, Thermal Pad 3.2x3.2mm, NSC Recommended)
pins: 1 LDO6 (TX) (power), 2 TX_EN (in), 3 LDO5 (RX) (power), 4 VIN2 (power), 5 LDO7 (GP) (power), 6 OUT+ (out), 7 VDD (power), 8 OUT- (out), 9 IN+ (in), 10 IN- (in), 11 GND (power), 12 BYPASS, 13 LDO4 (TCXO) (power), 14 LDO3 (ANA) (power), 15 LDO2 (DIGI) (power), 16 LDO1 (CORE) (power), 17 VIN1 (power), 18 GNDA (power), 19 SDA (io), 20 SCL (in), 21 BATT (power), 22 CHG_IN (power), 23 PWR_ON (in), 24 IMON (out), 25 PS_HOLD (in), 26 TCXO_EN (in), 27 HF_PWR (in), 28 VSS (power), 29 PON_N (out), 30 RESET_N (out), 31 ACOK_N (out), 32 RX_EN (in), 33 Thermal Pad (power)

## LP3921SQE/NOPB
designator U?
Battery Charger Management and Regulator Unit with Integrated Boomer Audio Amplifier, 32-pin LLP, Pb-Free; PartNumber: LP3921SQE/NOPB; Manufacturer: National Semiconductor; PackageTopMarking: NS*UZXYTT*L3921SQ; PowerWise: N; CompType: MiscPower; High-Reliability: Y; DatasheetVersion: Aug-2008; PackageVersion: revB, Oct-2009; PackageReference: SQA32A; PackageDescription: LLP, Quad, 5 x 5 x 0.8mm, 32 Lead, 0.5mm Pitch, No Pullback 3.1 x 3.1 Exposed Pad; RoHS: Y; PinCount: 32; ComponentLink1Description: Manufacturer URL; ComponentLink1URL: http://www.national.com/; ComponentLink2Description: LP3921 Datasheet; ComponentLink2URL: http://www.national.com/ds/LP/LP3921.pdf; ComponentLink3Description: LP3921 Web Page; ComponentLink3URL: http://www.national.com/pf/LP/LP3921.html; ComponentLink4Description: SQA32A Package Page; ComponentLink4URL: http://www.national.com/packaging/folders/sqa32a.html
footprint SQA32A (QFN, 32-Leads, Body 5x5mm, Pitch 0.5mm, Thermal Pad 3.2x3.2mm, NSC Recommended)
pins: 1 LDO6 (TX) (power), 2 TX_EN (in), 3 LDO5 (RX) (power), 4 VIN2 (power), 5 LDO7 (GP) (power), 6 OUT+ (out), 7 VDD (power), 8 OUT- (out), 9 IN+ (in), 10 IN- (in), 11 GND (power), 12 BYPASS, 13 LDO4 (TCXO) (power), 14 LDO3 (ANA) (power), 15 LDO2 (DIGI) (power), 16 LDO1 (CORE) (power), 17 VIN1 (power), 18 GNDA (power), 19 SDA (io), 20 SCL (in), 21 BATT (power), 22 CHG_IN (power), 23 PWR_ON (in), 24 IMON (out), 25 PS_HOLD (in), 26 TCXO_EN (in), 27 HF_PWR (in), 28 VSS (power), 29 PON_N (out), 30 RESET_N (out), 31 ACOK_N (out), 32 RX_EN (in), 33 Thermal Pad (power)

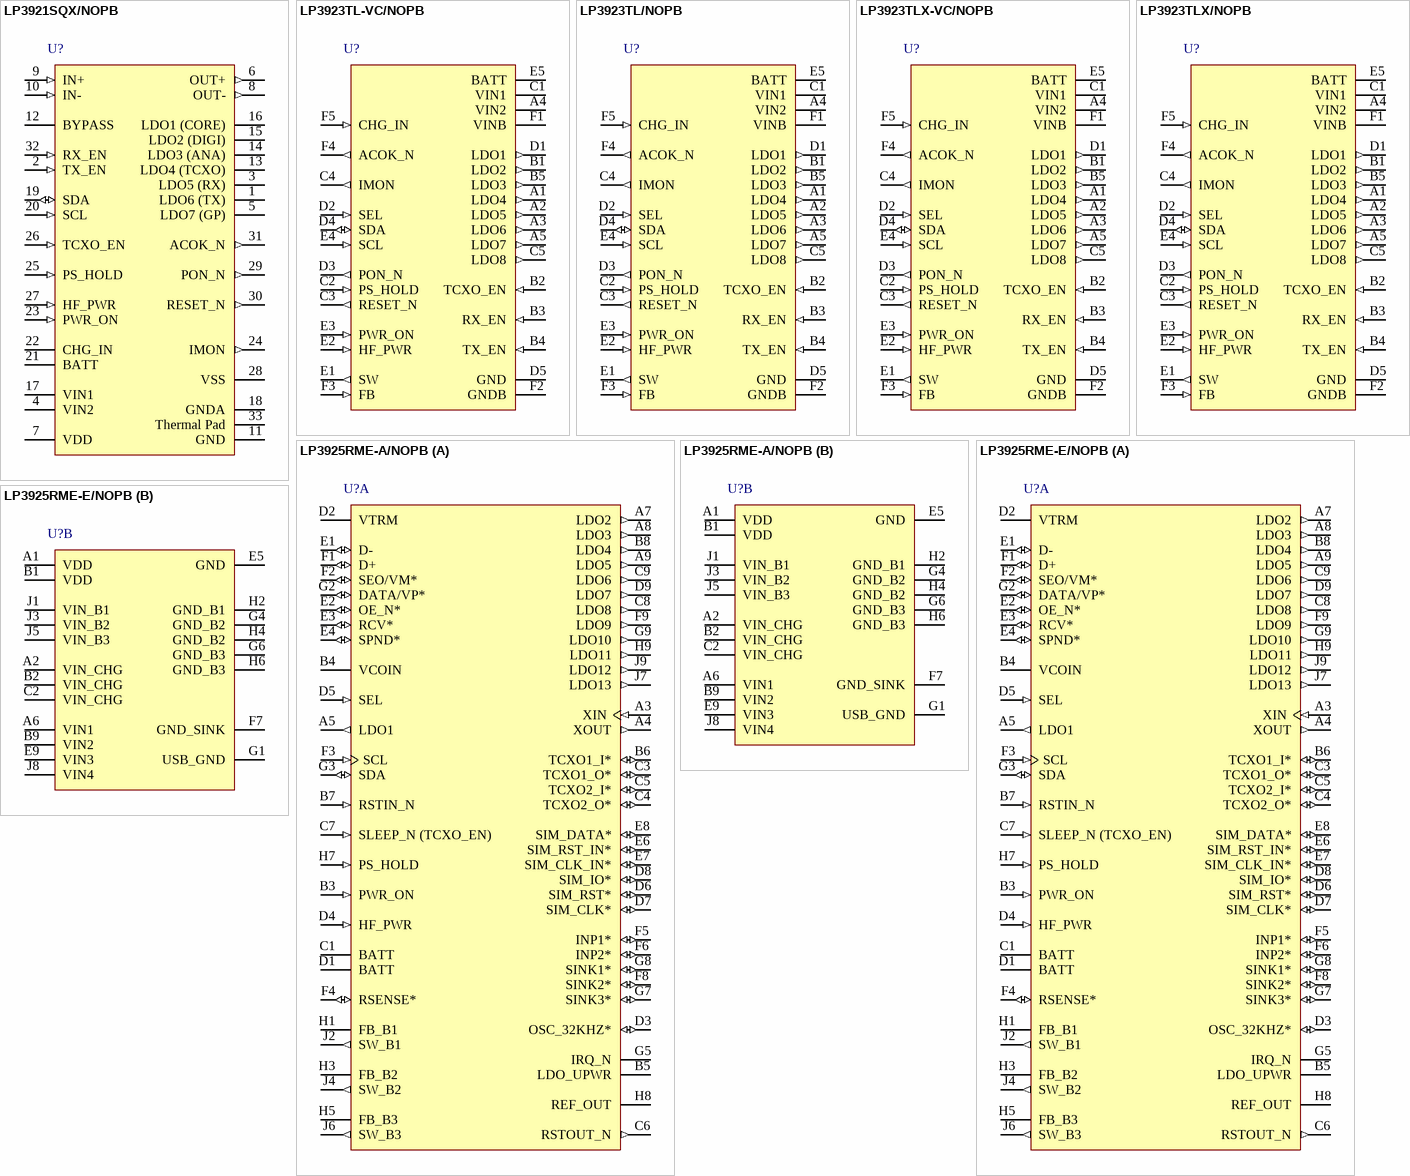
[diagram p43: symbols LP3921SQX/NOPB to LP3925RME-E/NOPB]

## LP3921SQX/NOPB
designator U?
Battery Charger Management and Regulator Unit with Integrated Boomer Audio Amplifier, 32-pin LLP, Pb-Free; PartNumber: LP3921SQX/NOPB; Manufacturer: National Semiconductor; PackageTopMarking: NS*UZXYTT*L3921SQ; PowerWise: N; CompType: MiscPower; High-Reliability: Y; DatasheetVersion: Aug-2008; PackageVersion: revB, Oct-2009; PackageReference: SQA32A; PackageDescription: LLP, Quad, 5 x 5 x 0.8mm, 32 Lead, 0.5mm Pitch, No Pullback 3.1 x 3.1 Exposed Pad; RoHS: Y; PinCount: 32; ComponentLink1Description: Manufacturer URL; ComponentLink1URL: http://www.national.com/; ComponentLink2Description: LP3921 Datasheet; ComponentLink2URL: http://www.national.com/ds/LP/LP3921.pdf; ComponentLink3Description: LP3921 Web Page; ComponentLink3URL: http://www.national.com/pf/LP/LP3921.html; ComponentLink4Description: SQA32A Package Page; ComponentLink4URL: http://www.national.com/packaging/folders/sqa32a.html
footprint SQA32A (QFN, 32-Leads, Body 5x5mm, Pitch 0.5mm, Thermal Pad 3.2x3.2mm, NSC Recommended)
pins: 1 LDO6 (TX) (power), 2 TX_EN (in), 3 LDO5 (RX) (power), 4 VIN2 (power), 5 LDO7 (GP) (power), 6 OUT+ (out), 7 VDD (power), 8 OUT- (out), 9 IN+ (in), 10 IN- (in), 11 GND (power), 12 BYPASS, 13 LDO4 (TCXO) (power), 14 LDO3 (ANA) (power), 15 LDO2 (DIGI) (power), 16 LDO1 (CORE) (power), 17 VIN1 (power), 18 GNDA (power), 19 SDA (io), 20 SCL (in), 21 BATT (power), 22 CHG_IN (power), 23 PWR_ON (in), 24 IMON (out), 25 PS_HOLD (in), 26 TCXO_EN (in), 27 HF_PWR (in), 28 VSS (power), 29 PON_N (out), 30 RESET_N (out), 31 ACOK_N (out), 32 RX_EN (in), 33 Thermal Pad (power)

## LP3923TL-VC/NOPB
designator U?
Cellular Phone Power Management Unit, 30-pin Micro SMD, 250 Reel; PartNumber: LP3923TL-VC/NOPB; Manufacturer: National Semiconductor; PackageTopMarking: XYTT*I V026; PowerWise: N; CompType: MiscPower; High-Reliability: Y; DatasheetVersion: Oct-2011; PackageVersion: revC, Dec-2003; PackageReference: TLA3011A; PackageDescription: Thin Micro SMD, 30 Bump (Large), 0.5mm Pitch; RoHS: Y; PinCount: 30; Code_JEDEC: MO-211-DJ; ComponentLink1Description: Manufacturer URL; ComponentLink1URL: http://www.national.com/; ComponentLink2Description: LP3923 Datasheet; ComponentLink2URL: http://www.national.com/ds/LP/LP3923.pdf; ComponentLink3Description: LP3923 Web Page; ComponentLink3URL: http://www.national.com/pf/LP/LP3923.html; ComponentLink4Description: TLA3011A Package Page; ComponentLink4URL: http://www.national.com/packaging/folders/tla3011a.html
footprint TLA3011A (Micro SMD, 30-Leads, Body 2.97x2.47mm, Pitch 0.5mm, NSC Recommended)
pins: A1 LDO4 (out), A2 LDO5 (out), A3 LDO6 (out), A4 VIN2 (power), A5 LDO7 (out), B1 LDO2 (out), B2 TCXO_EN (in), B3 RX_EN (in), B4 TX_EN (in), B5 LDO3 (out), C1 VIN1 (power), C2 PS_HOLD (in), C3 RESET_N (out), C4 IMON (out), C5 LDO8 (out), D1 LDO1 (out), D2 SEL (in), D3 PON_N (out), D4 SDA (io), D5 GND (power), E1 SW (out), E2 HF_PWR (in), E3 PWR_ON (in), E4 SCL (in), E5 BATT (power), F1 VINB (power), F2 GNDB (power), F3 FB (in), F4 ACOK_N (out), F5 CHG_IN (in)

## LP3923TL/NOPB
designator U?
Cellular Phone Power Management Unit, 30-pin Micro SMD, 250 Reel; PartNumber: LP3923TL/NOPB; Manufacturer: National Semiconductor; PackageTopMarking: XYTT*I 3923; PowerWise: N; CompType: MiscPower; High-Reliability: Y; DatasheetVersion: Oct-2011; PackageVersion: revC, Dec-2003; PackageReference: TLA3011A; PackageDescription: Thin Micro SMD, 30 Bump (Large), 0.5mm Pitch; RoHS: Y; PinCount: 30; Code_JEDEC: MO-211-DJ; ComponentLink1Description: Manufacturer URL; ComponentLink1URL: http://www.national.com/; ComponentLink2Description: LP3923 Datasheet; ComponentLink2URL: http://www.national.com/ds/LP/LP3923.pdf; ComponentLink3Description: LP3923 Web Page; ComponentLink3URL: http://www.national.com/pf/LP/LP3923.html; ComponentLink4Description: TLA3011A Package Page; ComponentLink4URL: http://www.national.com/packaging/folders/tla3011a.html
footprint TLA3011A (Micro SMD, 30-Leads, Body 2.97x2.47mm, Pitch 0.5mm, NSC Recommended)
pins: A1 LDO4 (out), A2 LDO5 (out), A3 LDO6 (out), A4 VIN2 (power), A5 LDO7 (out), B1 LDO2 (out), B2 TCXO_EN (in), B3 RX_EN (in), B4 TX_EN (in), B5 LDO3 (out), C1 VIN1 (power), C2 PS_HOLD (in), C3 RESET_N (out), C4 IMON (out), C5 LDO8 (out), D1 LDO1 (out), D2 SEL (in), D3 PON_N (out), D4 SDA (io), D5 GND (power), E1 SW (out), E2 HF_PWR (in), E3 PWR_ON (in), E4 SCL (in), E5 BATT (power), F1 VINB (power), F2 GNDB (power), F3 FB (in), F4 ACOK_N (out), F5 CHG_IN (in)

## LP3923TLX-VC/NOPB
designator U?
Cellular Phone Power Management Unit, 30-pin Micro SMD, 3000 Reel; PartNumber: LP3923TLX-VC/NOPB; Manufacturer: National Semiconductor; PackageTopMarking: XYTT*I V026; PowerWise: N; CompType: MiscPower; High-Reliability: Y; DatasheetVersion: Oct-2011; PackageVersion: revC, Dec-2003; PackageReference: TLA3011A; PackageDescription: Thin Micro SMD, 30 Bump (Large), 0.5mm Pitch; RoHS: Y; PinCount: 30; Code_JEDEC: MO-211-DJ; ComponentLink1Description: Manufacturer URL; ComponentLink1URL: http://www.national.com/; ComponentLink2Description: LP3923 Datasheet; ComponentLink2URL: http://www.national.com/ds/LP/LP3923.pdf; ComponentLink3Description: LP3923 Web Page; ComponentLink3URL: http://www.national.com/pf/LP/LP3923.html; ComponentLink4Description: TLA3011A Package Page; ComponentLink4URL: http://www.national.com/packaging/folders/tla3011a.html
footprint TLA3011A (Micro SMD, 30-Leads, Body 2.97x2.47mm, Pitch 0.5mm, NSC Recommended)
pins: A1 LDO4 (out), A2 LDO5 (out), A3 LDO6 (out), A4 VIN2 (power), A5 LDO7 (out), B1 LDO2 (out), B2 TCXO_EN (in), B3 RX_EN (in), B4 TX_EN (in), B5 LDO3 (out), C1 VIN1 (power), C2 PS_HOLD (in), C3 RESET_N (out), C4 IMON (out), C5 LDO8 (out), D1 LDO1 (out), D2 SEL (in), D3 PON_N (out), D4 SDA (io), D5 GND (power), E1 SW (out), E2 HF_PWR (in), E3 PWR_ON (in), E4 SCL (in), E5 BATT (power), F1 VINB (power), F2 GNDB (power), F3 FB (in), F4 ACOK_N (out), F5 CHG_IN (in)

## LP3923TLX/NOPB
designator U?
Cellular Phone Power Management Unit, 30-pin Micro SMD, 3000 Reel; PartNumber: LP3923TLX/NOPB; Manufacturer: National Semiconductor; PackageTopMarking: XYTT*I 3923; PowerWise: N; CompType: MiscPower; High-Reliability: Y; DatasheetVersion: Oct-2011; PackageVersion: revC, Dec-2003; PackageReference: TLA3011A; PackageDescription: Thin Micro SMD, 30 Bump (Large), 0.5mm Pitch; RoHS: Y; PinCount: 30; Code_JEDEC: MO-211-DJ; ComponentLink1Description: Manufacturer URL; ComponentLink1URL: http://www.national.com/; ComponentLink2Description: LP3923 Datasheet; ComponentLink2URL: http://www.national.com/ds/LP/LP3923.pdf; ComponentLink3Description: LP3923 Web Page; ComponentLink3URL: http://www.national.com/pf/LP/LP3923.html; ComponentLink4Description: TLA3011A Package Page; ComponentLink4URL: http://www.national.com/packaging/folders/tla3011a.html
footprint TLA3011A (Micro SMD, 30-Leads, Body 2.97x2.47mm, Pitch 0.5mm, NSC Recommended)
pins: A1 LDO4 (out), A2 LDO5 (out), A3 LDO6 (out), A4 VIN2 (power), A5 LDO7 (out), B1 LDO2 (out), B2 TCXO_EN (in), B3 RX_EN (in), B4 TX_EN (in), B5 LDO3 (out), C1 VIN1 (power), C2 PS_HOLD (in), C3 RESET_N (out), C4 IMON (out), C5 LDO8 (out), D1 LDO1 (out), D2 SEL (in), D3 PON_N (out), D4 SDA (io), D5 GND (power), E1 SW (out), E2 HF_PWR (in), E3 PWR_ON (in), E4 SCL (in), E5 BATT (power), F1 VINB (power), F2 GNDB (power), F3 FB (in), F4 ACOK_N (out), F5 CHG_IN (in)

## LP3925RME-A/NOPB
designator U?
High Performance Power Management Unit for Handset Applications, 81-pin Micro SMDXT, 250 Reel, Pb-Free; PartNumber: LP3925RME-A/NOPB; Manufacturer: National Semiconductor; PackageTopMarking: XYTT*I V030; PowerWise: N; CompType: MiscPower; High-Reliability: Y; DatasheetVersion: Jul-2011; PackageVersion: revA, Feb-2011; PackageReference: RMD81AAA; PackageDescription: Thin Micro SMDxt, 81 Bump, 0.4 mm Pitch; RoHS: Y; PinCount: 81; ComponentLink1Description: Manufacturer URL; ComponentLink1URL: http://www.national.com/; ComponentLink2Description: LP3925 Datasheet; ComponentLink2URL: http://www.national.com/ds/LP/LP3925.pdf; ComponentLink3Description: LP3925 Web Page; ComponentLink3URL: http://www.national.com/pf/LP/LP3925.html; ComponentLink4Description: RMD81AAA Package Page; ComponentLink4URL: http://www.national.com/packaging/folders/rmd81aaa.html
footprint RMD81AAA (Micro SMD, 81-Leads, Body 3.62x3.62mm, Pitch 0.4mm, NSC Recommended)
part A pins: A3 XIN (in), A4 XOUT (out), A5 LDO1 (out), A7 LDO2 (out), A8 LDO3 (out), A9 LDO5 (out), B3 PWR_ON (in), B4 VCOIN (power), B5 LDO_UPWR, B6 TCXO1_I* (io), B7 RSTIN_N (in), B8 LDO4 (out), C1 BATT (power), C3 TCXO1_O* (io), C4 TCXO2_O* (io), C5 TCXO2_I* (io), C6 RSTOUT_N (out), C7 SLEEP_N (TCXO_EN) (in), C8 LDO8 (out), C9 LDO6 (out), D1 BATT (power), D2 VTRM (power), D3 OSC_32KHZ* (io), D4 HF_PWR (in), D5 SEL (in), D6 SIM_RST* (io), D7 SIM_CLK* (io), D8 SIM_IO* (io), D9 LDO7 (out), E1 D- (io), E2 OE_N* (io), E3 RCV* (io), E4 SPND* (io), E6 SIM_RST_IN* (io), E7 SIM_CLK_IN* (io), E8 SIM_DATA* (io), F1 D+ (io), F2 SEO/VM* (io), F3 SCL (in), F4 RSENSE* (io), F5 INP1* (io), F6 INP2* (io), F8 SINK2* (io), F9 LDO9 (out), G2 DATA/VP* (io), G3 SDA (io), G5 IRQ_N (oc), G7 SINK3* (io), G8 SINK1* (io), G9 LDO10 (out), H1 FB_B1 (power), H3 FB_B2 (power), H5 FB_B3 (power), H7 PS_HOLD (in), H8 REF_OUT (power), H9 LDO11 (out), J2 SW_B1 (out), J4 SW_B2 (out), J6 SW_B3 (out), J7 LDO13 (out), J9 LDO12 (out)
part B pins: A1 VDD (power), A2 VIN_CHG (power), A6 VIN1 (power), B1 VDD (power), B2 VIN_CHG (power), B9 VIN2 (power), C2 VIN_CHG (power), E5 GND (power), E9 VIN3 (power), F7 GND_SINK (power), G1 USB_GND (power), G4 GND_B2 (power), G6 GND_B3 (power), H2 GND_B1 (power), H4 GND_B2 (power), H6 GND_B3 (power), J1 VIN_B1 (power), J3 VIN_B2 (power), J5 VIN_B3 (power), J8 VIN4 (power)

## LP3925RME-E/NOPB
designator U?
High Performance Power Management Unit for Handset Applications, 81-pin Micro SMDXT; PartNumber: LP3925RME-E/NOPB; Manufacturer: National Semiconductor; PackageTopMarking: XYTT*I V030; PowerWise: N; CompType: MiscPower; High-Reliability: Y; DatasheetVersion: Jul-2011; PackageVersion: revA, Feb-2011; PackageReference: RMD81AAA; PackageDescription: Thin Micro SMDxt, 81 Bump, 0.4 mm Pitch; RoHS: Y; PinCount: 81; ComponentLink1Description: Manufacturer URL; ComponentLink1URL: http://www.national.com/; ComponentLink2Description: LP3925 Datasheet; ComponentLink2URL: http://www.national.com/ds/LP/LP3925.pdf; ComponentLink3Description: LP3925 Web Page; ComponentLink3URL: http://www.national.com/pf/LP/LP3925.html; ComponentLink4Description: RMD81AAA Package Page; ComponentLink4URL: http://www.national.com/packaging/folders/rmd81aaa.html
footprint RMD81AAA (Micro SMD, 81-Leads, Body 3.62x3.62mm, Pitch 0.4mm, NSC Recommended)
part A pins: A3 XIN (in), A4 XOUT (out), A5 LDO1 (out), A7 LDO2 (out), A8 LDO3 (out), A9 LDO5 (out), B3 PWR_ON (in), B4 VCOIN (power), B5 LDO_UPWR, B6 TCXO1_I* (io), B7 RSTIN_N (in), B8 LDO4 (out), C1 BATT (power), C3 TCXO1_O* (io), C4 TCXO2_O* (io), C5 TCXO2_I* (io), C6 RSTOUT_N (out), C7 SLEEP_N (TCXO_EN) (in), C8 LDO8 (out), C9 LDO6 (out), D1 BATT (power), D2 VTRM (power), D3 OSC_32KHZ* (io), D4 HF_PWR (in), D5 SEL (in), D6 SIM_RST* (io), D7 SIM_CLK* (io), D8 SIM_IO* (io), D9 LDO7 (out), E1 D- (io), E2 OE_N* (io), E3 RCV* (io), E4 SPND* (io), E6 SIM_RST_IN* (io), E7 SIM_CLK_IN* (io), E8 SIM_DATA* (io), F1 D+ (io), F2 SEO/VM* (io), F3 SCL (in), F4 RSENSE* (io), F5 INP1* (io), F6 INP2* (io), F8 SINK2* (io), F9 LDO9 (out), G2 DATA/VP* (io), G3 SDA (io), G5 IRQ_N (oc), G7 SINK3* (io), G8 SINK1* (io), G9 LDO10 (out), H1 FB_B1 (power), H3 FB_B2 (power), H5 FB_B3 (power), H7 PS_HOLD (in), H8 REF_OUT (power), H9 LDO11 (out), J2 SW_B1 (out), J4 SW_B2 (out), J6 SW_B3 (out), J7 LDO13 (out), J9 LDO12 (out)
part B pins: A1 VDD (power), A2 VIN_CHG (power), A6 VIN1 (power), B1 VDD (power), B2 VIN_CHG (power), B9 VIN2 (power), C2 VIN_CHG (power), E5 GND (power), E9 VIN3 (power), F7 GND_SINK (power), G1 USB_GND (power), G4 GND_B2 (power), G6 GND_B3 (power), H2 GND_B1 (power), H4 GND_B2 (power), H6 GND_B3 (power), J1 VIN_B1 (power), J3 VIN_B2 (power), J5 VIN_B3 (power), J8 VIN4 (power)

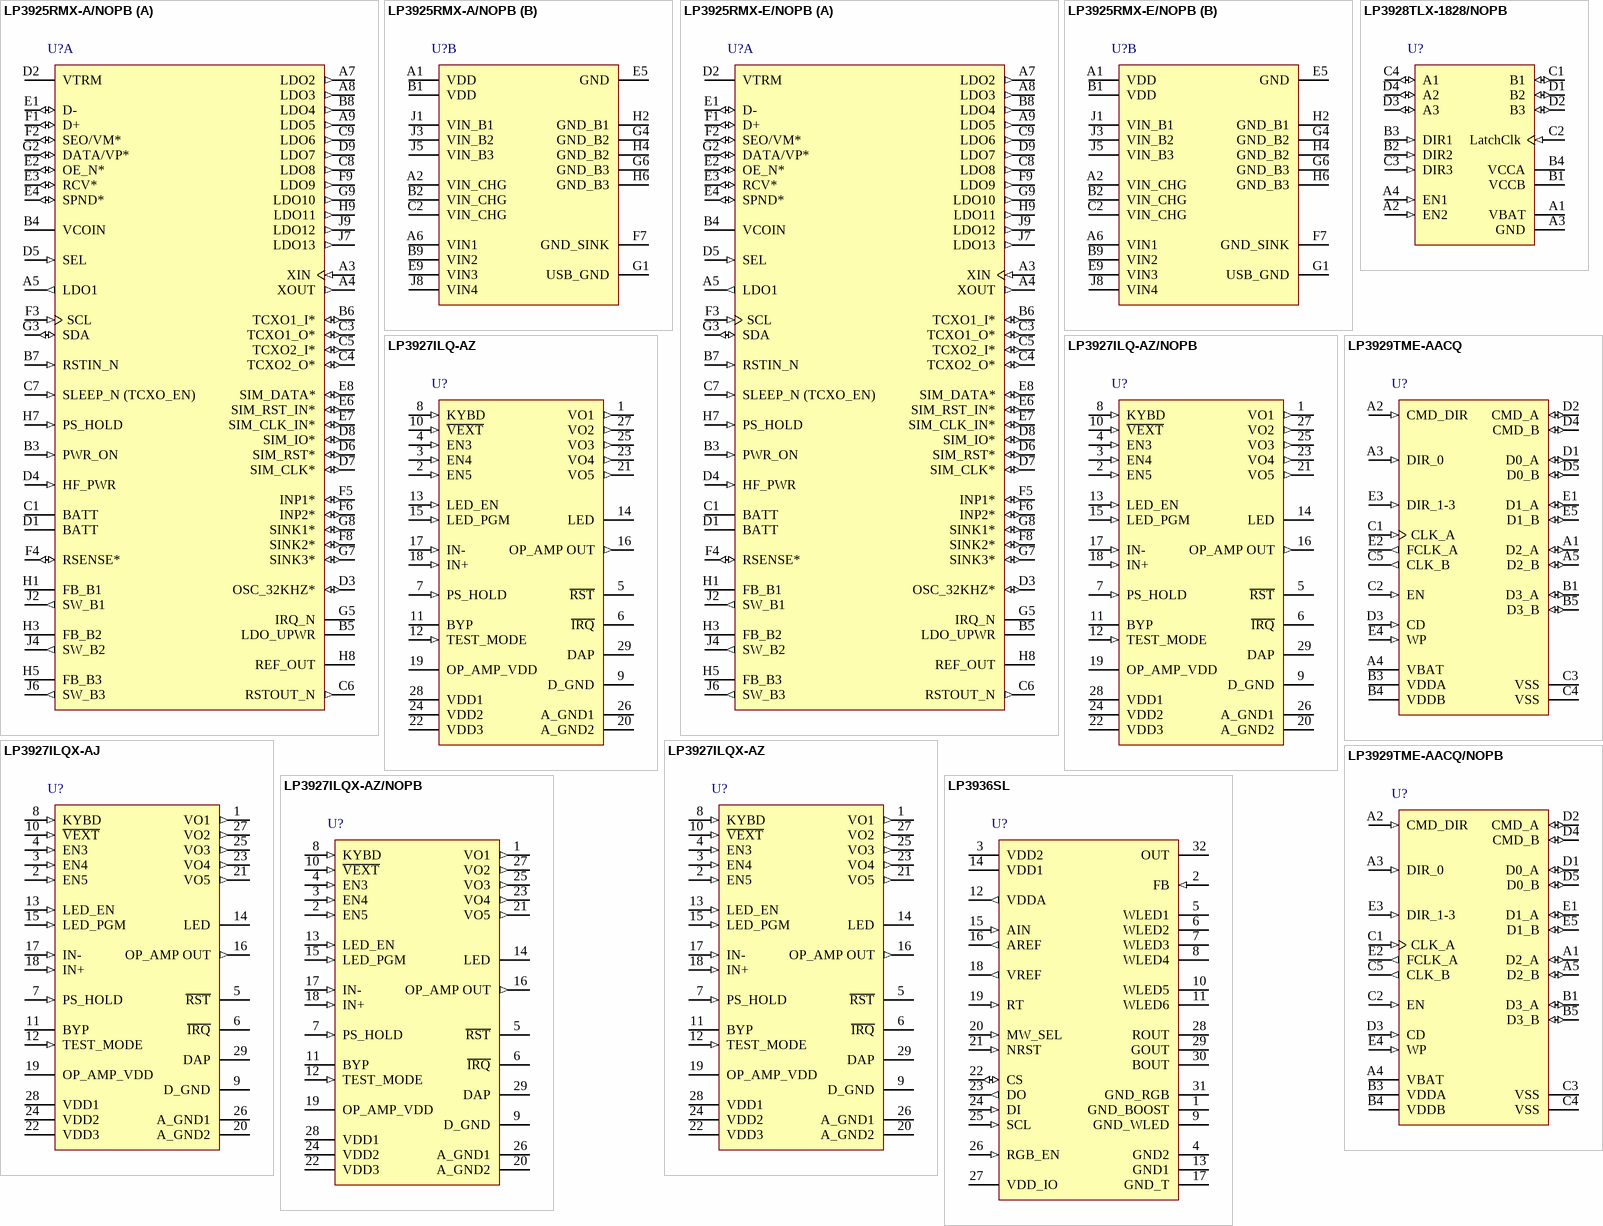
[diagram p44: symbols LP3925RMX-A/NOPB to LP3936SL]

## LP3925RMX-A/NOPB
designator U?
High Performance Power Management Unit for Handset Applications, 81-pin Micro SMDXT, 1000 Reel, Pb-Free; PartNumber: LP3925RMX-A/NOPB; Manufacturer: National Semiconductor; PackageTopMarking: XYTT*I V030; PowerWise: N; CompType: MiscPower; High-Reliability: Y; DatasheetVersion: Jul-2011; PackageVersion: revA, Feb-2011; PackageReference: RMD81AAA; PackageDescription: Thin Micro SMDxt, 81 Bump, 0.4 mm Pitch; RoHS: Y; PinCount: 81; ComponentLink1Description: Manufacturer URL; ComponentLink1URL: http://www.national.com/; ComponentLink2Description: LP3925 Datasheet; ComponentLink2URL: http://www.national.com/ds/LP/LP3925.pdf; ComponentLink3Description: LP3925 Web Page; ComponentLink3URL: http://www.national.com/pf/LP/LP3925.html; ComponentLink4Description: RMD81AAA Package Page; ComponentLink4URL: http://www.national.com/packaging/folders/rmd81aaa.html
footprint RMD81AAA (Micro SMD, 81-Leads, Body 3.62x3.62mm, Pitch 0.4mm, NSC Recommended)
part A pins: A3 XIN (in), A4 XOUT (out), A5 LDO1 (out), A7 LDO2 (out), A8 LDO3 (out), A9 LDO5 (out), B3 PWR_ON (in), B4 VCOIN (power), B5 LDO_UPWR, B6 TCXO1_I* (io), B7 RSTIN_N (in), B8 LDO4 (out), C1 BATT (power), C3 TCXO1_O* (io), C4 TCXO2_O* (io), C5 TCXO2_I* (io), C6 RSTOUT_N (out), C7 SLEEP_N (TCXO_EN) (in), C8 LDO8 (out), C9 LDO6 (out), D1 BATT (power), D2 VTRM (power), D3 OSC_32KHZ* (io), D4 HF_PWR (in), D5 SEL (in), D6 SIM_RST* (io), D7 SIM_CLK* (io), D8 SIM_IO* (io), D9 LDO7 (out), E1 D- (io), E2 OE_N* (io), E3 RCV* (io), E4 SPND* (io), E6 SIM_RST_IN* (io), E7 SIM_CLK_IN* (io), E8 SIM_DATA* (io), F1 D+ (io), F2 SEO/VM* (io), F3 SCL (in), F4 RSENSE* (io), F5 INP1* (io), F6 INP2* (io), F8 SINK2* (io), F9 LDO9 (out), G2 DATA/VP* (io), G3 SDA (io), G5 IRQ_N (oc), G7 SINK3* (io), G8 SINK1* (io), G9 LDO10 (out), H1 FB_B1 (power), H3 FB_B2 (power), H5 FB_B3 (power), H7 PS_HOLD (in), H8 REF_OUT (power), H9 LDO11 (out), J2 SW_B1 (out), J4 SW_B2 (out), J6 SW_B3 (out), J7 LDO13 (out), J9 LDO12 (out)
part B pins: A1 VDD (power), A2 VIN_CHG (power), A6 VIN1 (power), B1 VDD (power), B2 VIN_CHG (power), B9 VIN2 (power), C2 VIN_CHG (power), E5 GND (power), E9 VIN3 (power), F7 GND_SINK (power), G1 USB_GND (power), G4 GND_B2 (power), G6 GND_B3 (power), H2 GND_B1 (power), H4 GND_B2 (power), H6 GND_B3 (power), J1 VIN_B1 (power), J3 VIN_B2 (power), J5 VIN_B3 (power), J8 VIN4 (power)

## LP3925RMX-E/NOPB
designator U?
High Performance Power Management Unit for Handset Applications, 81-pin Micro SMDXT; PartNumber: LP3925RMX-E/NOPB; Manufacturer: National Semiconductor; PackageTopMarking: XYTT*I V030; PowerWise: N; CompType: MiscPower; High-Reliability: Y; DatasheetVersion: Jul-2011; PackageVersion: revA, Feb-2011; PackageReference: RMD81AAA; PackageDescription: Thin Micro SMDxt, 81 Bump, 0.4 mm Pitch; RoHS: Y; PinCount: 81; ComponentLink1Description: Manufacturer URL; ComponentLink1URL: http://www.national.com/; ComponentLink2Description: LP3925 Datasheet; ComponentLink2URL: http://www.national.com/ds/LP/LP3925.pdf; ComponentLink3Description: LP3925 Web Page; ComponentLink3URL: http://www.national.com/pf/LP/LP3925.html; ComponentLink4Description: RMD81AAA Package Page; ComponentLink4URL: http://www.national.com/packaging/folders/rmd81aaa.html
footprint RMD81AAA (Micro SMD, 81-Leads, Body 3.62x3.62mm, Pitch 0.4mm, NSC Recommended)
part A pins: A3 XIN (in), A4 XOUT (out), A5 LDO1 (out), A7 LDO2 (out), A8 LDO3 (out), A9 LDO5 (out), B3 PWR_ON (in), B4 VCOIN (power), B5 LDO_UPWR, B6 TCXO1_I* (io), B7 RSTIN_N (in), B8 LDO4 (out), C1 BATT (power), C3 TCXO1_O* (io), C4 TCXO2_O* (io), C5 TCXO2_I* (io), C6 RSTOUT_N (out), C7 SLEEP_N (TCXO_EN) (in), C8 LDO8 (out), C9 LDO6 (out), D1 BATT (power), D2 VTRM (power), D3 OSC_32KHZ* (io), D4 HF_PWR (in), D5 SEL (in), D6 SIM_RST* (io), D7 SIM_CLK* (io), D8 SIM_IO* (io), D9 LDO7 (out), E1 D- (io), E2 OE_N* (io), E3 RCV* (io), E4 SPND* (io), E6 SIM_RST_IN* (io), E7 SIM_CLK_IN* (io), E8 SIM_DATA* (io), F1 D+ (io), F2 SEO/VM* (io), F3 SCL (in), F4 RSENSE* (io), F5 INP1* (io), F6 INP2* (io), F8 SINK2* (io), F9 LDO9 (out), G2 DATA/VP* (io), G3 SDA (io), G5 IRQ_N (oc), G7 SINK3* (io), G8 SINK1* (io), G9 LDO10 (out), H1 FB_B1 (power), H3 FB_B2 (power), H5 FB_B3 (power), H7 PS_HOLD (in), H8 REF_OUT (power), H9 LDO11 (out), J2 SW_B1 (out), J4 SW_B2 (out), J6 SW_B3 (out), J7 LDO13 (out), J9 LDO12 (out)
part B pins: A1 VDD (power), A2 VIN_CHG (power), A6 VIN1 (power), B1 VDD (power), B2 VIN_CHG (power), B9 VIN2 (power), C2 VIN_CHG (power), E5 GND (power), E9 VIN3 (power), F7 GND_SINK (power), G1 USB_GND (power), G4 GND_B2 (power), G6 GND_B3 (power), H2 GND_B1 (power), H4 GND_B2 (power), H6 GND_B3 (power), J1 VIN_B1 (power), J3 VIN_B2 (power), J5 VIN_B3 (power), J8 VIN4 (power)